# Altium integrated library Altium_WE-XTAL (rev19a).IntLib: 251 symbols (part 2 of 4)
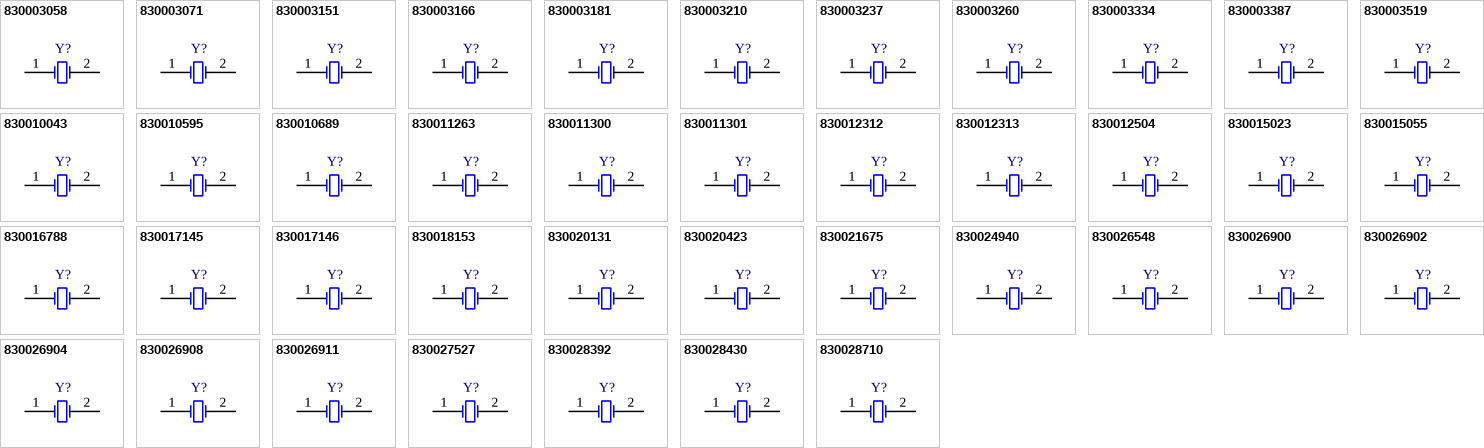
[diagram p18: symbols 830003058 to 830028710]

## 830026908
designator Y?, comment 14.7456MHz, +/-20ppm, 16pF  (value not drawn)
WE-XTAL Quartz Crystal, size HC49-4HSMX, 14.7456MHz, +/-20ppm, 16pF; Part Number: 830026908; Frequency Stability: 50ppm; ComponentLink1Description: Manufacturer; ComponentLink1URL: http://www.we-online.de; ComponentLink2Description: Datasheet; ComponentLink2URL: https://katalog.we-online.com/pbs/datasheet/830026908.pdf; Published Date: March 2019; Publisher: Wurth Elektronik; Size: HC49-4HSMX; Operating Temperature: -10 up to +60degC; Mounting Technology: SMT; Packaging: Tape and Reel; Load Capacitance: 16pF; Frequency Tolerance: +/-20ppm; Frequency: 14.7456MHz
footprint WE-XTAL_HC49/4HSMX
pins: 1 OSC1, 2 OSC2

## 830026911
designator Y?, comment 18.432MHz, +/-20ppm, 16pF  (value not drawn)
WE-XTAL Quartz Crystal, size HC49-4HSMX, 18.432MHz, +/-20ppm, 16pF; Part Number: 830026911; Frequency Stability: 50ppm; ComponentLink1Description: Manufacturer; ComponentLink1URL: http://www.we-online.de; ComponentLink2Description: Datasheet; ComponentLink2URL: https://katalog.we-online.com/pbs/datasheet/830026911.pdf; Published Date: March 2019; Publisher: Wurth Elektronik; Size: HC49-4HSMX; Operating Temperature: -10 up to +60degC; Mounting Technology: SMT; Packaging: Tape and Reel; Load Capacitance: 16pF; Frequency Tolerance: +/-20ppm; Frequency: 18.432MHz
footprint WE-XTAL_HC49/4HSMX
pins: 1 OSC1, 2 OSC2

## 830027527
designator Y?, comment 7.175MHz, +/-50ppm, 16pF  (value not drawn)
WE-XTAL Quartz Crystal, size HC49-4HSMX, 7.175MHz, +/-50ppm, 16pF; Part Number: 830027527; Frequency Stability: 100ppm; ComponentLink1Description: Manufacturer; ComponentLink1URL: http://www.we-online.de; ComponentLink2Description: Datasheet; ComponentLink2URL: https://katalog.we-online.com/pbs/datasheet/830027527.pdf; Published Date: March 2019; Publisher: Wurth Elektronik; Size: HC49-4HSMX; Operating Temperature: -55 up to +105degC; Mounting Technology: SMT; Packaging: Tape and Reel; Load Capacitance: 16pF; Frequency Tolerance: +/-50ppm; Frequency: 7.175MHz
footprint WE-XTAL_HC49/4HSMX
pins: 1 OSC1, 2 OSC2

## 830028392
designator Y?, comment 4.9152MHz, +/-30ppm, 18pF  (value not drawn)
WE-XTAL Quartz Crystal, size HC49-4HSMX, 4.9152MHz, +/-30ppm, 18pF; Part Number: 830028392; Frequency Stability: 50ppm; ComponentLink1Description: Manufacturer; ComponentLink1URL: http://www.we-online.de; ComponentLink2Description: Datasheet; ComponentLink2URL: https://katalog.we-online.com/pbs/datasheet/830028392.pdf; Published Date: March 2019; Publisher: Wurth Elektronik; Size: HC49-4HSMX; Operating Temperature: -20 up to +70degC; Mounting Technology: SMT; Packaging: Tape and Reel; Load Capacitance: 18pF; Frequency Tolerance: +/-30ppm; Frequency: 4.9152MHz
footprint WE-XTAL_HC49/4HSMX
pins: 1 OSC1, 2 OSC2

## 830028430
designator Y?, comment 3.2768MHz, +/-30ppm, 18pF  (value not drawn)
WE-XTAL Quartz Crystal, size HC49-4HSMX, 3.2768MHz, +/-30ppm, 18pF; Part Number: 830028430; Frequency Stability: 30ppm; ComponentLink1Description: Manufacturer; ComponentLink1URL: http://www.we-online.de; ComponentLink2Description: Datasheet; ComponentLink2URL: https://katalog.we-online.com/pbs/datasheet/830028430.pdf; Published Date: March 2019; Publisher: Wurth Elektronik; Size: HC49-4HSMX; Operating Temperature: -20 up to +70degC; Mounting Technology: SMT; Packaging: Tape and Reel; Load Capacitance: 18pF; Frequency Tolerance: +/-30ppm; Frequency: 3.2768MHz
footprint WE-XTAL_HC49/4HSMX
pins: 1 OSC1, 2 OSC2

## 830028710
designator Y?, comment 20MHz, +/-30ppm, 18pF  (value not drawn)
WE-XTAL Quartz Crystal, size HC49-4HSMX, 20MHz, +/-30ppm, 18pF; Part Number: 830028710; Frequency Stability: 50ppm; ComponentLink1Description: Manufacturer; ComponentLink1URL: http://www.we-online.de; ComponentLink2Description: Datasheet; ComponentLink2URL: https://katalog.we-online.com/pbs/datasheet/830028710.pdf; Published Date: March 2019; Publisher: Wurth Elektronik; Size: HC49-4HSMX; Operating Temperature: -40 up to +85degC; Mounting Technology: SMT; Packaging: Tape and Reel; Load Capacitance: 18pF; Frequency Tolerance: +/-30ppm; Frequency: 20MHz
footprint WE-XTAL_HC49/4HSMX
pins: 1 OSC1, 2 OSC2

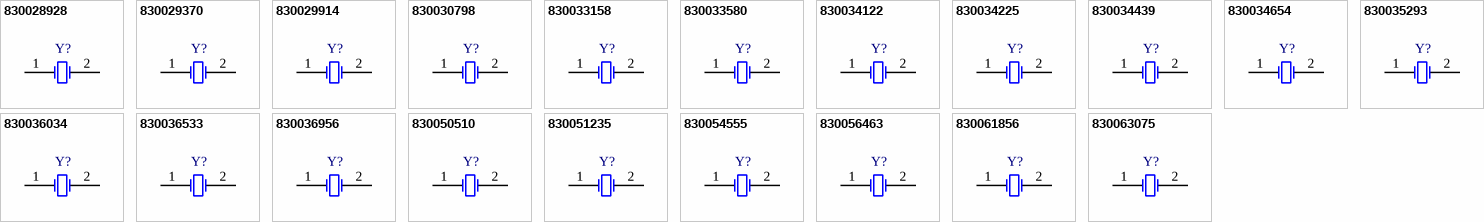
[diagram p6: symbols 830028928 to 830063075]

## 830028928
designator Y?, comment 11.0592MHz, +/-30ppm, 20pF  (value not drawn)
WE-XTAL Quartz Crystal, size HC49-4HSMX, 11.0592MHz, +/-30ppm, 20pF; Part Number: 830028928; Frequency Stability: 50ppm; ComponentLink1Description: Manufacturer; ComponentLink1URL: http://www.we-online.de; ComponentLink2Description: Datasheet; ComponentLink2URL: https://katalog.we-online.com/pbs/datasheet/830028928.pdf; Published Date: March 2019; Publisher: Wurth Elektronik; Size: HC49-4HSMX; Operating Temperature: -20 up to +70degC; Mounting Technology: SMT; Packaging: Tape and Reel; Load Capacitance: 20pF; Frequency Tolerance: +/-30ppm; Frequency: 11.0592MHz
footprint WE-XTAL_HC49/4HSMX
pins: 1 OSC1, 2 OSC2

## 830029370
designator Y?, comment 16MHz, +/-30ppm, 18pF  (value not drawn)
WE-XTAL Quartz Crystal, size HC49-4HSMX, 16MHz, +/-30ppm, 18pF; Part Number: 830029370; Frequency Stability: 50ppm; ComponentLink1Description: Manufacturer; ComponentLink1URL: http://www.we-online.de; ComponentLink2Description: Datasheet; ComponentLink2URL: https://katalog.we-online.com/pbs/datasheet/830029370.pdf; Published Date: March 2019; Publisher: Wurth Elektronik; Size: HC49-4HSMX; Operating Temperature: -20 up to +70degC; Mounting Technology: SMT; Packaging: Tape and Reel; Load Capacitance: 18pF; Frequency Tolerance: +/-30ppm; Frequency: 16MHz
footprint WE-XTAL_HC49/4HSMX
pins: 1 OSC1, 2 OSC2

## 830029914
designator Y?, comment 8MHz, +/-30ppm, 16pF  (value not drawn)
WE-XTAL Quartz Crystal, size HC49-4HSMX, 8MHz, +/-30ppm, 16pF; Part Number: 830029914; Frequency Stability: 50ppm; ComponentLink1Description: Manufacturer; ComponentLink1URL: http://www.we-online.de; ComponentLink2Description: Datasheet; ComponentLink2URL: https://katalog.we-online.com/pbs/datasheet/830029914.pdf; Published Date: March 2019; Publisher: Wurth Elektronik; Size: HC49-4HSMX; Operating Temperature: -40 up to +85degC; Mounting Technology: SMT; Packaging: Tape and Reel; Load Capacitance: 16pF; Frequency Tolerance: +/-30ppm; Frequency: 8MHz
footprint WE-XTAL_HC49/4HSMX
pins: 1 OSC1, 2 OSC2

## 830030798
designator Y?, comment 3.6864MHz, +/-30ppm, 16pF  (value not drawn)
WE-XTAL Quartz Crystal, size HC49-4HSMX, 3.6864MHz, +/-30ppm, 16pF; Part Number: 830030798; Frequency Stability: 50ppm; ComponentLink1Description: Manufacturer; ComponentLink1URL: http://www.we-online.de; ComponentLink2Description: Datasheet; ComponentLink2URL: https://katalog.we-online.com/pbs/datasheet/830030798.pdf; Published Date: March 2019; Publisher: Wurth Elektronik; Size: HC49-4HSMX; Operating Temperature: -40 up to +85degC; Mounting Technology: SMT; Packaging: Tape and Reel; Load Capacitance: 16pF; Frequency Tolerance: +/-30ppm; Frequency: 3.6864MHz
footprint WE-XTAL_HC49/4HSMX
pins: 1 OSC1, 2 OSC2

## 830033158
designator Y?, comment 3.6864MHz, +/-30ppm, 18pF  (value not drawn)
WE-XTAL Quartz Crystal, size HC49-4HSMX, 3.6864MHz, +/-30ppm, 18pF; Part Number: 830033158; Frequency Stability: 50ppm; ComponentLink1Description: Manufacturer; ComponentLink1URL: http://www.we-online.de; ComponentLink2Description: Datasheet; ComponentLink2URL: https://katalog.we-online.com/pbs/datasheet/830033158.pdf; Published Date: March 2019; Publisher: Wurth Elektronik; Size: HC49-4HSMX; Operating Temperature: -20 up to +70degC; Mounting Technology: SMT; Packaging: Tape and Reel; Load Capacitance: 18pF; Frequency Tolerance: +/-30ppm; Frequency: 3.6864MHz
footprint WE-XTAL_HC49/4HSMX
pins: 1 OSC1, 2 OSC2

## 830033580
designator Y?, comment 12MHz, +/-30ppm, 18pF  (value not drawn)
WE-XTAL Quartz Crystal, size HC49-4HSMX, 12MHz, +/-30ppm, 18pF; Part Number: 830033580; Frequency Stability: 50ppm; ComponentLink1Description: Manufacturer; ComponentLink1URL: http://www.we-online.de; ComponentLink2Description: Datasheet; ComponentLink2URL: https://katalog.we-online.com/pbs/datasheet/830033580.pdf; Published Date: March 2019; Publisher: Wurth Elektronik; Size: HC49-4HSMX; Operating Temperature: -20 up to +70degC; Mounting Technology: SMT; Packaging: Tape and Reel; Load Capacitance: 18pF; Frequency Tolerance: +/-30ppm; Frequency: 12MHz
footprint WE-XTAL_HC49/4HSMX
pins: 1 OSC1, 2 OSC2

## 830034122
designator Y?, comment 16MHz, +/-20ppm, 12pF  (value not drawn)
WE-XTAL Quartz Crystal, size HC49-4HSMX, 16MHz, +/-20ppm, 12pF; Part Number: 830034122; Frequency Stability: 20ppm; ComponentLink1Description: Manufacturer; ComponentLink1URL: http://www.we-online.de; ComponentLink2Description: Datasheet; ComponentLink2URL: https://katalog.we-online.com/pbs/datasheet/830034122.pdf; Published Date: March 2019; Publisher: Wurth Elektronik; Size: HC49-4HSMX; Operating Temperature: -20 up to +70degC; Mounting Technology: SMT; Packaging: Tape and Reel; Load Capacitance: 12pF; Frequency Tolerance: +/-20ppm; Frequency: 16MHz
footprint WE-XTAL_HC49/4HSMX
pins: 1 OSC1, 2 OSC2

## 830034225
designator Y?, comment 20MHz, +/-50ppm, 16pF  (value not drawn)
WE-XTAL Quartz Crystal, size HC49-4HSMX, 20MHz, +/-50ppm, 16pF; Part Number: 830034225; Frequency Stability: 50ppm; ComponentLink1Description: Manufacturer; ComponentLink1URL: http://www.we-online.de; ComponentLink2Description: Datasheet; ComponentLink2URL: https://katalog.we-online.com/pbs/datasheet/830034225.pdf; Published Date: March 2019; Publisher: Wurth Elektronik; Size: HC49-4HSMX; Operating Temperature: -30 up to +80degC; Mounting Technology: SMT; Packaging: Tape and Reel; Load Capacitance: 16pF; Frequency Tolerance: +/-50ppm; Frequency: 20MHz
footprint WE-XTAL_HC49/4HSMX
pins: 1 OSC1, 2 OSC2

## 830034439
designator Y?, comment 4.9152MHz, +/-30ppm, 16pF  (value not drawn)
WE-XTAL Quartz Crystal, size HC49-4HSMX, 4.9152MHz, +/-30ppm, 16pF; Part Number: 830034439; Frequency Stability: 50ppm; ComponentLink1Description: Manufacturer; ComponentLink1URL: http://www.we-online.de; ComponentLink2Description: Datasheet; ComponentLink2URL: https://katalog.we-online.com/pbs/datasheet/830034439.pdf; Published Date: March 2019; Publisher: Wurth Elektronik; Size: HC49-4HSMX; Operating Temperature: -20 up to +70degC; Mounting Technology: SMT; Packaging: Tape and Reel; Load Capacitance: 16pF; Frequency Tolerance: +/-30ppm; Frequency: 4.9152MHz
footprint WE-XTAL_HC49/4HSMX
pins: 1 OSC1, 2 OSC2

## 830034654
designator Y?, comment 4MHz, +/-20ppm, 18pF  (value not drawn)
WE-XTAL Quartz Crystal, size HC49-4HSMX, 4MHz, +/-20ppm, 18pF; Part Number: 830034654; Frequency Stability: 50ppm; ComponentLink1Description: Manufacturer; ComponentLink1URL: http://www.we-online.de; ComponentLink2Description: Datasheet; ComponentLink2URL: https://katalog.we-online.com/pbs/datasheet/830034654.pdf; Published Date: March 2019; Publisher: Wurth Elektronik; Size: HC49-4HSMX; Operating Temperature: -20 up to +70degC; Mounting Technology: SMT; Packaging: Tape and Reel; Load Capacitance: 18pF; Frequency Tolerance: +/-20ppm; Frequency: 4MHz
footprint WE-XTAL_HC49/4HSMX
pins: 1 OSC1, 2 OSC2

## 830035293
designator Y?, comment 12MHz, +/-30ppm, 16pF  (value not drawn)
WE-XTAL Quartz Crystal, size HC49-4HSMX, 12MHz, +/-30ppm, 16pF; Part Number: 830035293; Frequency Stability: 50ppm; ComponentLink1Description: Manufacturer; ComponentLink1URL: http://www.we-online.de; ComponentLink2Description: Datasheet; ComponentLink2URL: https://katalog.we-online.com/pbs/datasheet/830035293.pdf; Published Date: March 2019; Publisher: Wurth Elektronik; Size: HC49-4HSMX; Operating Temperature: -40 up to +85degC; Mounting Technology: SMT; Packaging: Tape and Reel; Load Capacitance: 16pF; Frequency Tolerance: +/-30ppm; Frequency: 12MHz
footprint WE-XTAL_HC49/4HSMX
pins: 1 OSC1, 2 OSC2

## 830036034
designator Y?, comment 16MHz, +/-30ppm, 16pF  (value not drawn)
WE-XTAL Quartz Crystal, size HC49-4HSMX, 16MHz, +/-30ppm, 16pF; Part Number: 830036034; Frequency Stability: 50ppm; ComponentLink1Description: Manufacturer; ComponentLink1URL: http://www.we-online.de; ComponentLink2Description: Datasheet; ComponentLink2URL: https://katalog.we-online.com/pbs/datasheet/830036034.pdf; Published Date: March 2019; Publisher: Wurth Elektronik; Size: HC49-4HSMX; Operating Temperature: -40 up to +85degC; Mounting Technology: SMT; Packaging: Tape and Reel; Load Capacitance: 16pF; Frequency Tolerance: +/-30ppm; Frequency: 16MHz
footprint WE-XTAL_HC49/4HSMX
pins: 1 OSC1, 2 OSC2

## 830036533
designator Y?, comment 24MHz, +/-30ppm, 18pF  (value not drawn)
WE-XTAL Quartz Crystal, size HC49-4HSMX, 24MHz, +/-30ppm, 18pF; Part Number: 830036533; Frequency Stability: 50ppm; ComponentLink1Description: Manufacturer; ComponentLink1URL: http://www.we-online.de; ComponentLink2Description: Datasheet; ComponentLink2URL: https://katalog.we-online.com/pbs/datasheet/830036533.pdf; Published Date: March 2019; Publisher: Wurth Elektronik; Size: HC49-4HSMX; Operating Temperature: -40 up to +85degC; Mounting Technology: SMT; Packaging: Tape and Reel; Load Capacitance: 18pF; Frequency Tolerance: +/-30ppm; Frequency: 24MHz
footprint WE-XTAL_HC49/4HSMX
pins: 1 OSC1, 2 OSC2

## 830036956
designator Y?, comment 14.7456MHz, +/-30ppm, 16pF  (value not drawn)
WE-XTAL Quartz Crystal, size HC49-4HSMX, 14.7456MHz, +/-30ppm, 16pF; Part Number: 830036956; Frequency Stability: 50ppm; ComponentLink1Description: Manufacturer; ComponentLink1URL: http://www.we-online.de; ComponentLink2Description: Datasheet; ComponentLink2URL: https://katalog.we-online.com/pbs/datasheet/830036956.pdf; Published Date: March 2019; Publisher: Wurth Elektronik; Size: HC49-4HSMX; Operating Temperature: -20 up to +70degC; Mounting Technology: SMT; Packaging: Tape and Reel; Load Capacitance: 16pF; Frequency Tolerance: +/-30ppm; Frequency: 14.7456MHz
footprint WE-XTAL_HC49/4HSMX
pins: 1 OSC1, 2 OSC2

## 830050510
designator Y?, comment 8MHz, +/-30ppm, 18pF  (value not drawn)
WE-XTAL Quartz Crystal, size HC49-4HSMX, 8MHz, +/-30ppm, 18pF; Part Number: 830050510; Frequency Stability: 50ppm; ComponentLink1Description: Manufacturer; ComponentLink1URL: http://www.we-online.de; ComponentLink2Description: Datasheet; ComponentLink2URL: https://katalog.we-online.com/pbs/datasheet/830050510.pdf; Published Date: March 2019; Publisher: Wurth Elektronik; Size: HC49-4HSMX; Operating Temperature: -40 up to +85degC; Mounting Technology: SMT; Packaging: Tape and Reel; Load Capacitance: 18pF; Frequency Tolerance: +/-30ppm; Frequency: 8MHz
footprint WE-XTAL_HC49/4HSMX
pins: 1 OSC1, 2 OSC2

## 830051235
designator Y?, comment 16MHz, +/-30ppm, 18pF  (value not drawn)
WE-XTAL Quartz Crystal, size HC49-4HSMX, 16MHz, +/-30ppm, 18pF; Part Number: 830051235; Frequency Stability: 50ppm; ComponentLink1Description: Manufacturer; ComponentLink1URL: http://www.we-online.de; ComponentLink2Description: Datasheet; ComponentLink2URL: https://katalog.we-online.com/pbs/datasheet/830051235.pdf; Published Date: March 2019; Publisher: Wurth Elektronik; Size: HC49-4HSMX; Operating Temperature: -40 up to +85degC; Mounting Technology: SMT; Packaging: Tape and Reel; Load Capacitance: 18pF; Frequency Tolerance: +/-30ppm; Frequency: 16MHz
footprint WE-XTAL_HC49/4HSMX
pins: 1 OSC1, 2 OSC2

## 830054555
designator Y?, comment 25MHz, +/-20ppm, 20pF  (value not drawn)
WE-XTAL Quartz Crystal, size HC49-4HSMX, 25MHz, +/-20ppm, 20pF; Part Number: 830054555; Frequency Stability: 20ppm; ComponentLink1Description: Manufacturer; ComponentLink1URL: http://www.we-online.de; ComponentLink2Description: Datasheet; ComponentLink2URL: https://katalog.we-online.com/pbs/datasheet/830054555.pdf; Published Date: March 2019; Publisher: Wurth Elektronik; Size: HC49-4HSMX; Operating Temperature: -40 up to +85degC; Mounting Technology: SMT; Packaging: Tape and Reel; Load Capacitance: 20pF; Frequency Tolerance: +/-20ppm; Frequency: 25MHz
footprint WE-XTAL_HC49/4HSMX
pins: 1 OSC1, 2 OSC2

## 830056463
designator Y?, comment 25MHz, +/-30ppm, 18pF  (value not drawn)
WE-XTAL Quartz Crystal, size HC49-4HSMX, 25MHz, +/-30ppm, 18pF; Part Number: 830056463; Frequency Stability: 50ppm; ComponentLink1Description: Manufacturer; ComponentLink1URL: http://www.we-online.de; ComponentLink2Description: Datasheet; ComponentLink2URL: https://katalog.we-online.com/pbs/datasheet/830056463.pdf; Published Date: March 2019; Publisher: Wurth Elektronik; Size: HC49-4HSMX; Operating Temperature: -40 up to +85degC; Mounting Technology: SMT; Packaging: Tape and Reel; Load Capacitance: 18pF; Frequency Tolerance: +/-30ppm; Frequency: 25MHz
footprint WE-XTAL_HC49/4HSMX
pins: 1 OSC1, 2 OSC2

## 830061856
designator Y?, comment 20MHz, +/-10ppm, 18pF  (value not drawn)
WE-XTAL Quartz Crystal, size HC49-4HSMX, 20MHz, +/-10ppm, 18pF; Part Number: 830061856; Frequency Stability: 10ppm; ComponentLink1Description: Manufacturer; ComponentLink1URL: http://www.we-online.de; ComponentLink2Description: Datasheet; ComponentLink2URL: https://katalog.we-online.com/pbs/datasheet/830061856.pdf; Published Date: March 2019; Publisher: Wurth Elektronik; Size: HC49-4HSMX; Operating Temperature: -20 up to +70degC; Mounting Technology: SMT; Packaging: Tape and Reel; Load Capacitance: 18pF; Frequency Tolerance: +/-10ppm; Frequency: 20MHz
footprint WE-XTAL_HC49/4HSMX
pins: 1 OSC1, 2 OSC2

## 830063075
designator Y?, comment 17.2032MHz, +/-30ppm, 22pF  (value not drawn)
WE-XTAL Quartz Crystal, size HC49-4HSMX, 17.2032MHz, +/-30ppm, 22pF; Part Number: 830063075; Frequency Stability: 50ppm; ComponentLink1Description: Manufacturer; ComponentLink1URL: http://www.we-online.de; ComponentLink2Description: Datasheet; ComponentLink2URL: https://katalog.we-online.com/pbs/datasheet/830063075.pdf; Published Date: March 2019; Publisher: Wurth Elektronik; Size: HC49-4HSMX; Operating Temperature: -40 up to +85degC; Mounting Technology: SMT; Packaging: Tape and Reel; Load Capacitance: 22pF; Frequency Tolerance: +/-30ppm; Frequency: 17.2032MHz
footprint WE-XTAL_HC49/4HSMX
pins: 1 OSC1, 2 OSC2


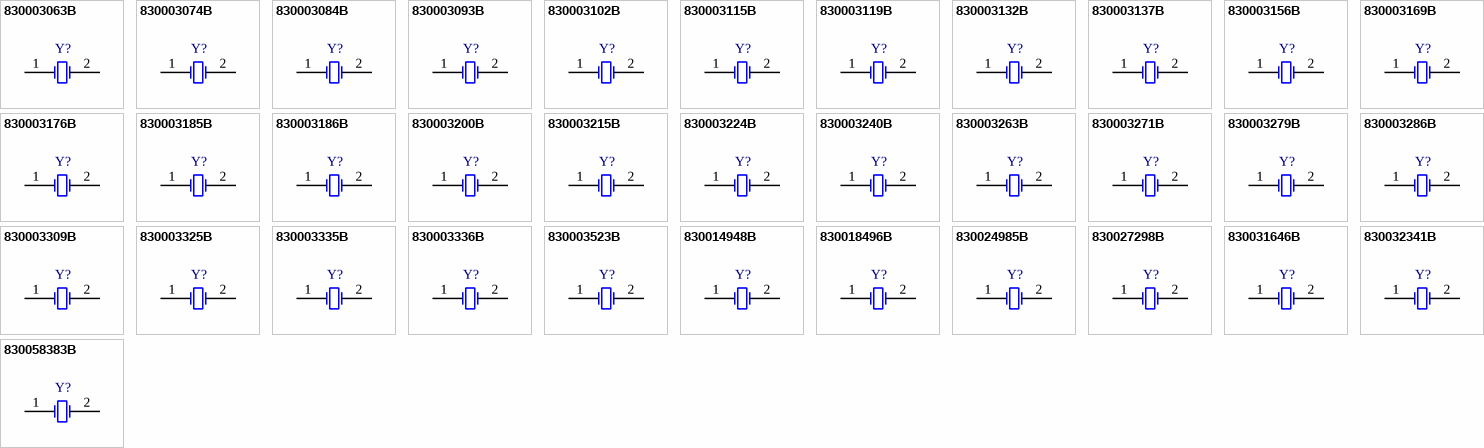
[diagram p7: symbols 830003063B to 830058383B]

## 830003063B
designator Y?, comment 3.579545MHz, +/-30ppm, 20pF  (value not drawn)
WE-XTAL Quartz Crystal, size HC49-4H, 3.579545MHz, +/-30ppm, 20pF; Part Number: 830003063B; Frequency Stability: 50ppm; ComponentLink1Description: Manufacturer; ComponentLink1URL: http://www.we-online.de; ComponentLink2Description: Datasheet; ComponentLink2URL: https://katalog.we-online.com/pbs/datasheet/830003063B.pdf; Published Date: March 2019; Publisher: Wurth Elektronik; Size: HC49-4H; Operating Temperature: -20 up to +70degC; Mounting Technology: THT; Packaging: Bulk; Load Capacitance: 20pF; Frequency Tolerance: +/-30ppm; Frequency: 3.579545MHz
footprint WE-XTAL_HC49/4H
pins: 1 OSC1, 2 OSC2

## 830003074B
designator Y?, comment 4MHz, +/-20ppm, 30pF  (value not drawn)
WE-XTAL Quartz Crystal, size HC49-4H, 4MHz, +/-20ppm, 30pF; Part Number: 830003074B; Frequency Stability: 50ppm; ComponentLink1Description: Manufacturer; ComponentLink1URL: http://www.we-online.de; ComponentLink2Description: Datasheet; ComponentLink2URL: https://katalog.we-online.com/pbs/datasheet/830003074B.pdf; Published Date: March 2019; Publisher: Wurth Elektronik; Size: HC49-4H; Operating Temperature: -10 up to +60degC; Mounting Technology: THT; Packaging: Bulk; Load Capacitance: 30pF; Frequency Tolerance: +/-20ppm; Frequency: 4MHz
footprint WE-XTAL_HC49/4H
pins: 1 OSC1, 2 OSC2

## 830003084B
designator Y?, comment 4.096MHz, +/-30ppm, 30pF  (value not drawn)
WE-XTAL Quartz Crystal, size HC49-4H, 4.096MHz, +/-30ppm, 30pF; Part Number: 830003084B; Frequency Stability: 50ppm; ComponentLink1Description: Manufacturer; ComponentLink1URL: http://www.we-online.de; ComponentLink2Description: Datasheet; ComponentLink2URL: https://katalog.we-online.com/pbs/datasheet/830003084B.pdf; Published Date: March 2019; Publisher: Wurth Elektronik; Size: HC49-4H; Operating Temperature: -10 up to +60degC; Mounting Technology: THT; Packaging: Bulk; Load Capacitance: 30pF; Frequency Tolerance: +/-30ppm; Frequency: 4.096MHz
footprint WE-XTAL_HC49/4H
pins: 1 OSC1, 2 OSC2

## 830003093B
designator Y?, comment 4.194304MHz, +/-30ppm, 12pF  (value not drawn)
WE-XTAL Quartz Crystal, size HC49-4H, 4.194304MHz, +/-30ppm, 12pF; Part Number: 830003093B; Frequency Stability: 50ppm; ComponentLink1Description: Manufacturer; ComponentLink1URL: http://www.we-online.de; ComponentLink2Description: Datasheet; ComponentLink2URL: https://katalog.we-online.com/pbs/datasheet/830003093B.pdf; Published Date: March 2019; Publisher: Wurth Elektronik; Size: HC49-4H; Operating Temperature: -10 up to +60degC; Mounting Technology: THT; Packaging: Bulk; Load Capacitance: 12pF; Frequency Tolerance: +/-30ppm; Frequency: 4.194304MHz
footprint WE-XTAL_HC49/4H
pins: 1 OSC1, 2 OSC2

## 830003102B
designator Y?, comment 4.433619MHz, +/-30ppm, 20pF  (value not drawn)
WE-XTAL Quartz Crystal, size HC49-4H, 4.433619MHz, +/-30ppm, 20pF; Part Number: 830003102B; Frequency Stability: 50ppm; ComponentLink1Description: Manufacturer; ComponentLink1URL: http://www.we-online.de; ComponentLink2Description: Datasheet; ComponentLink2URL: https://katalog.we-online.com/pbs/datasheet/830003102B.pdf; Published Date: March 2019; Publisher: Wurth Elektronik; Size: HC49-4H; Operating Temperature: -10 up to +60degC; Mounting Technology: THT; Packaging: Bulk; Load Capacitance: 20pF; Frequency Tolerance: +/-30ppm; Frequency: 4.433619MHz
footprint WE-XTAL_HC49/4H
pins: 1 OSC1, 2 OSC2

## 830003115B
designator Y?, comment 4.9152MHz, +/-30ppm, 30pF  (value not drawn)
WE-XTAL Quartz Crystal, size HC49-4H, 4.9152MHz, +/-30ppm, 30pF; Part Number: 830003115B; Frequency Stability: 50ppm; ComponentLink1Description: Manufacturer; ComponentLink1URL: http://www.we-online.de; ComponentLink2Description: Datasheet; ComponentLink2URL: https://katalog.we-online.com/pbs/datasheet/830003115B.pdf; Published Date: March 2019; Publisher: Wurth Elektronik; Size: HC49-4H; Operating Temperature: -20 up to +70degC; Mounting Technology: THT; Packaging: Bulk; Load Capacitance: 30pF; Frequency Tolerance: +/-30ppm; Frequency: 4.9152MHz
footprint WE-XTAL_HC49/4H
pins: 1 OSC1, 2 OSC2

## 830003119B
designator Y?, comment 5MHz, +/-30ppm, 30pF  (value not drawn)
WE-XTAL Quartz Crystal, size HC49-4H, 5MHz, +/-30ppm, 30pF; Part Number: 830003119B; Frequency Stability: 50ppm; ComponentLink1Description: Manufacturer; ComponentLink1URL: http://www.we-online.de; ComponentLink2Description: Datasheet; ComponentLink2URL: https://katalog.we-online.com/pbs/datasheet/830003119B.pdf; Published Date: March 2019; Publisher: Wurth Elektronik; Size: HC49-4H; Operating Temperature: -10 up to +60degC; Mounting Technology: THT; Packaging: Bulk; Load Capacitance: 30pF; Frequency Tolerance: +/-30ppm; Frequency: 5MHz
footprint WE-XTAL_HC49/4H
pins: 1 OSC1, 2 OSC2

## 830003132B
designator Y?, comment 6MHz, +/-30ppm, 30pF  (value not drawn)
WE-XTAL Quartz Crystal, size HC49-4H, 6MHz, +/-30ppm, 30pF; Part Number: 830003132B; Frequency Stability: 50ppm; ComponentLink1Description: Manufacturer; ComponentLink1URL: http://www.we-online.de; ComponentLink2Description: Datasheet; ComponentLink2URL: https://katalog.we-online.com/pbs/datasheet/830003132B.pdf; Published Date: March 2019; Publisher: Wurth Elektronik; Size: HC49-4H; Operating Temperature: -10 up to +60degC; Mounting Technology: THT; Packaging: Bulk; Load Capacitance: 30pF; Frequency Tolerance: +/-30ppm; Frequency: 6MHz
footprint WE-XTAL_HC49/4H
pins: 1 OSC1, 2 OSC2

## 830003137B
designator Y?, comment 6.144MHz, +/-30ppm, 30pF  (value not drawn)
WE-XTAL Quartz Crystal, size HC49-4H, 6.144MHz, +/-30ppm, 30pF; Part Number: 830003137B; Frequency Stability: 50ppm; ComponentLink1Description: Manufacturer; ComponentLink1URL: http://www.we-online.de; ComponentLink2Description: Datasheet; ComponentLink2URL: https://katalog.we-online.com/pbs/datasheet/830003137B.pdf; Published Date: March 2019; Publisher: Wurth Elektronik; Size: HC49-4H; Operating Temperature: -10 up to +60degC; Mounting Technology: THT; Packaging: Bulk; Load Capacitance: 30pF; Frequency Tolerance: +/-30ppm; Frequency: 6.144MHz
footprint WE-XTAL_HC49/4H
pins: 1 OSC1, 2 OSC2

## 830003156B
designator Y?, comment 8MHz, +/-30ppm, 30pF  (value not drawn)
WE-XTAL Quartz Crystal, size HC49-4H, 8MHz, +/-30ppm, 30pF; Part Number: 830003156B; Frequency Stability: 50ppm; ComponentLink1Description: Manufacturer; ComponentLink1URL: http://www.we-online.de; ComponentLink2Description: Datasheet; ComponentLink2URL: https://katalog.we-online.com/pbs/datasheet/830003156B.pdf; Published Date: March 2019; Publisher: Wurth Elektronik; Size: HC49-4H; Operating Temperature: -20 up to +70degC; Mounting Technology: THT; Packaging: Bulk; Load Capacitance: 30pF; Frequency Tolerance: +/-30ppm; Frequency: 8MHz
footprint WE-XTAL_HC49/4H
pins: 1 OSC1, 2 OSC2

## 830003169B
designator Y?, comment 10MHz, +/-30ppm, 30pF  (value not drawn)
WE-XTAL Quartz Crystal, size HC49-4H, 10MHz, +/-30ppm, 30pF; Part Number: 830003169B; Frequency Stability: 50ppm; ComponentLink1Description: Manufacturer; ComponentLink1URL: http://www.we-online.de; ComponentLink2Description: Datasheet; ComponentLink2URL: https://katalog.we-online.com/pbs/datasheet/830003169B.pdf; Published Date: March 2019; Publisher: Wurth Elektronik; Size: HC49-4H; Operating Temperature: -20 up to +70degC; Mounting Technology: THT; Packaging: Bulk; Load Capacitance: 30pF; Frequency Tolerance: +/-30ppm; Frequency: 10MHz
footprint WE-XTAL_HC49/4H
pins: 1 OSC1, 2 OSC2

## 830003176B
designator Y?, comment 18.432MHz, +/-30ppm, 30pF  (value not drawn)
WE-XTAL Quartz Crystal, size HC49-4H, 18.432MHz, +/-30ppm, 30pF; Part Number: 830003176B; Frequency Stability: 50ppm; ComponentLink1Description: Manufacturer; ComponentLink1URL: http://www.we-online.de; ComponentLink2Description: Datasheet; ComponentLink2URL: https://katalog.we-online.com/pbs/datasheet/830003176B.pdf; Published Date: March 2019; Publisher: Wurth Elektronik; Size: HC49-4H; Operating Temperature: -20 up to +70degC; Mounting Technology: THT; Packaging: Bulk; Load Capacitance: 30pF; Frequency Tolerance: +/-30ppm; Frequency: 18.432MHz
footprint WE-XTAL_HC49/4H
pins: 1 OSC1, 2 OSC2

## 830003185B
designator Y?, comment 20MHz, +/-30ppm, 12pF  (value not drawn)
WE-XTAL Quartz Crystal, size HC49-4H, 20MHz, +/-30ppm, 12pF; Part Number: 830003185B; Frequency Stability: 50ppm; ComponentLink1Description: Manufacturer; ComponentLink1URL: http://www.we-online.de; ComponentLink2Description: Datasheet; ComponentLink2URL: https://katalog.we-online.com/pbs/datasheet/830003185B.pdf; Published Date: March 2019; Publisher: Wurth Elektronik; Size: HC49-4H; Operating Temperature: -20 up to +70degC; Mounting Technology: THT; Packaging: Bulk; Load Capacitance: 12pF; Frequency Tolerance: +/-30ppm; Frequency: 20MHz
footprint WE-XTAL_HC49/4H
pins: 1 OSC1, 2 OSC2

## 830003186B
designator Y?, comment 20MHz, +/-30ppm, 20pF  (value not drawn)
WE-XTAL Quartz Crystal, size HC49-4H, 20MHz, +/-30ppm, 20pF; Part Number: 830003186B; Frequency Stability: 50ppm; ComponentLink1Description: Manufacturer; ComponentLink1URL: http://www.we-online.de; ComponentLink2Description: Datasheet; ComponentLink2URL: https://katalog.we-online.com/pbs/datasheet/830003186B.pdf; Published Date: March 2019; Publisher: Wurth Elektronik; Size: HC49-4H; Operating Temperature: -10 up to +60degC; Mounting Technology: THT; Packaging: Bulk; Load Capacitance: 20pF; Frequency Tolerance: +/-30ppm; Frequency: 20MHz
footprint WE-XTAL_HC49/4H
pins: 1 OSC1, 2 OSC2

## 830003200B
designator Y?, comment 14.31818MHz, +/-30ppm, 30pF  (value not drawn)
WE-XTAL Quartz Crystal, size HC49-4H, 14.31818MHz, +/-30ppm, 30pF; Part Number: 830003200B; Frequency Stability: 50ppm; ComponentLink1Description: Manufacturer; ComponentLink1URL: http://www.we-online.de; ComponentLink2Description: Datasheet; ComponentLink2URL: https://katalog.we-online.com/pbs/datasheet/830003200B.pdf; Published Date: March 2019; Publisher: Wurth Elektronik; Size: HC49-4H; Operating Temperature: -20 up to +70degC; Mounting Technology: THT; Packaging: Bulk; Load Capacitance: 30pF; Frequency Tolerance: +/-30ppm; Frequency: 14.31818MHz
footprint WE-XTAL_HC49/4H
pins: 1 OSC1, 2 OSC2

## 830003215B
designator Y?, comment 12MHz, +/-30ppm, 30pF  (value not drawn)
WE-XTAL Quartz Crystal, size HC49-4H, 12MHz, +/-30ppm, 30pF; Part Number: 830003215B; Frequency Stability: 50ppm; ComponentLink1Description: Manufacturer; ComponentLink1URL: http://www.we-online.de; ComponentLink2Description: Datasheet; ComponentLink2URL: https://katalog.we-online.com/pbs/datasheet/830003215B.pdf; Published Date: March 2019; Publisher: Wurth Elektronik; Size: HC49-4H; Operating Temperature: -20 up to +70degC; Mounting Technology: THT; Packaging: Bulk; Load Capacitance: 30pF; Frequency Tolerance: +/-30ppm; Frequency: 12MHz
footprint WE-XTAL_HC49/4H
pins: 1 OSC1, 2 OSC2

## 830003224B
designator Y?, comment 14.7456MHz, +/-30ppm, 30pF  (value not drawn)
WE-XTAL Quartz Crystal, size HC49-4H, 14.7456MHz, +/-30ppm, 30pF; Part Number: 830003224B; Frequency Stability: 50ppm; ComponentLink1Description: Manufacturer; ComponentLink1URL: http://www.we-online.de; ComponentLink2Description: Datasheet; ComponentLink2URL: https://katalog.we-online.com/pbs/datasheet/830003224B.pdf; Published Date: March 2019; Publisher: Wurth Elektronik; Size: HC49-4H; Operating Temperature: -10 up to +60degC; Mounting Technology: THT; Packaging: Bulk; Load Capacitance: 30pF; Frequency Tolerance: +/-30ppm; Frequency: 14.7456MHz
footprint WE-XTAL_HC49/4H
pins: 1 OSC1, 2 OSC2

## 830003240B
designator Y?, comment 16MHz, +/-30ppm, 30pF  (value not drawn)
WE-XTAL Quartz Crystal, size HC49-4H, 16MHz, +/-30ppm, 30pF; Part Number: 830003240B; Frequency Stability: 50ppm; ComponentLink1Description: Manufacturer; ComponentLink1URL: http://www.we-online.de; ComponentLink2Description: Datasheet; ComponentLink2URL: https://katalog.we-online.com/pbs/datasheet/830003240B.pdf; Published Date: March 2019; Publisher: Wurth Elektronik; Size: HC49-4H; Operating Temperature: -20 up to +70degC; Mounting Technology: THT; Packaging: Bulk; Load Capacitance: 30pF; Frequency Tolerance: +/-30ppm; Frequency: 16MHz
footprint WE-XTAL_HC49/4H
pins: 1 OSC1, 2 OSC2

## 830003263B
designator Y?, comment 3.6864MHz, +/-30ppm, 30pF  (value not drawn)
WE-XTAL Quartz Crystal, size HC49-4H, 3.6864MHz, +/-30ppm, 30pF; Part Number: 830003263B; Frequency Stability: 50ppm; ComponentLink1Description: Manufacturer; ComponentLink1URL: http://www.we-online.de; ComponentLink2Description: Datasheet; ComponentLink2URL: https://katalog.we-online.com/pbs/datasheet/830003263B.pdf; Published Date: March 2019; Publisher: Wurth Elektronik; Size: HC49-4H; Operating Temperature: -20 up to +70degC; Mounting Technology: THT; Packaging: Bulk; Load Capacitance: 30pF; Frequency Tolerance: +/-30ppm; Frequency: 3.6864MHz
footprint WE-XTAL_HC49/4H
pins: 1 OSC1, 2 OSC2

## 830003271B
designator Y?, comment 8.192MHz, +/-30ppm, 30pF  (value not drawn)
WE-XTAL Quartz Crystal, size HC49-4H, 8.192MHz, +/-30ppm, 30pF; Part Number: 830003271B; Frequency Stability: 50ppm; ComponentLink1Description: Manufacturer; ComponentLink1URL: http://www.we-online.de; ComponentLink2Description: Datasheet; ComponentLink2URL: https://katalog.we-online.com/pbs/datasheet/830003271B.pdf; Published Date: March 2019; Publisher: Wurth Elektronik; Size: HC49-4H; Operating Temperature: -10 up to +60degC; Mounting Technology: THT; Packaging: Bulk; Load Capacitance: 30pF; Frequency Tolerance: +/-30ppm; Frequency: 8.192MHz
footprint WE-XTAL_HC49/4H
pins: 1 OSC1, 2 OSC2

## 830003279B
designator Y?, comment 9.8304MHz, +/-30ppm, 30pF  (value not drawn)
WE-XTAL Quartz Crystal, size HC49-4H, 9.8304MHz, +/-30ppm, 30pF; Part Number: 830003279B; Frequency Stability: 50ppm; ComponentLink1Description: Manufacturer; ComponentLink1URL: http://www.we-online.de; ComponentLink2Description: Datasheet; ComponentLink2URL: https://katalog.we-online.com/pbs/datasheet/830003279B.pdf; Published Date: March 2019; Publisher: Wurth Elektronik; Size: HC49-4H; Operating Temperature: -10 up to +60degC; Mounting Technology: THT; Packaging: Bulk; Load Capacitance: 30pF; Frequency Tolerance: +/-30ppm; Frequency: 9.8304MHz
footprint WE-XTAL_HC49/4H
pins: 1 OSC1, 2 OSC2

## 830003286B
designator Y?, comment 12.288MHz, +/-30ppm, 30pF  (value not drawn)
WE-XTAL Quartz Crystal, size HC49-4H, 12.288MHz, +/-30ppm, 30pF; Part Number: 830003286B; Frequency Stability: 50ppm; ComponentLink1Description: Manufacturer; ComponentLink1URL: http://www.we-online.de; ComponentLink2Description: Datasheet; ComponentLink2URL: https://katalog.we-online.com/pbs/datasheet/830003286B.pdf; Published Date: March 2019; Publisher: Wurth Elektronik; Size: HC49-4H; Operating Temperature: -10 up to +60degC; Mounting Technology: THT; Packaging: Bulk; Load Capacitance: 30pF; Frequency Tolerance: +/-30ppm; Frequency: 12.288MHz
footprint WE-XTAL_HC49/4H
pins: 1 OSC1, 2 OSC2

## 830003309B
designator Y?, comment 19.6608MHz, +/-30ppm, 30pF  (value not drawn)
WE-XTAL Quartz Crystal, size HC49-4H, 19.6608MHz, +/-30ppm, 30pF; Part Number: 830003309B; Frequency Stability: 50ppm; ComponentLink1Description: Manufacturer; ComponentLink1URL: http://www.we-online.de; ComponentLink2Description: Datasheet; ComponentLink2URL: https://katalog.we-online.com/pbs/datasheet/830003309B.pdf; Published Date: March 2019; Publisher: Wurth Elektronik; Size: HC49-4H; Operating Temperature: -10 up to +60degC; Mounting Technology: THT; Packaging: Bulk; Load Capacitance: 30pF; Frequency Tolerance: +/-30ppm; Frequency: 19.6608MHz
footprint WE-XTAL_HC49/4H
pins: 1 OSC1, 2 OSC2

## 830003325B
designator Y?, comment 24MHz, +/-30ppm, 30pF  (value not drawn)
WE-XTAL Quartz Crystal, size HC49-4H, 24MHz, +/-30ppm, 30pF; Part Number: 830003325B; Frequency Stability: 50ppm; ComponentLink1Description: Manufacturer; ComponentLink1URL: http://www.we-online.de; ComponentLink2Description: Datasheet; ComponentLink2URL: https://katalog.we-online.com/pbs/datasheet/830003325B.pdf; Published Date: March 2019; Publisher: Wurth Elektronik; Size: HC49-4H; Operating Temperature: -10 up to +60degC; Mounting Technology: THT; Packaging: Bulk; Load Capacitance: 30pF; Frequency Tolerance: +/-30ppm; Frequency: 24MHz
footprint WE-XTAL_HC49/4H
pins: 1 OSC1, 2 OSC2

## 830003335B
designator Y?, comment 7.3728MHz, +/-30ppm, 30pF  (value not drawn)
WE-XTAL Quartz Crystal, size HC49-4H, 7.3728MHz, +/-30ppm, 30pF; Part Number: 830003335B; Frequency Stability: 50ppm; ComponentLink1Description: Manufacturer; ComponentLink1URL: http://www.we-online.de; ComponentLink2Description: Datasheet; ComponentLink2URL: https://katalog.we-online.com/pbs/datasheet/830003335B.pdf; Published Date: March 2019; Publisher: Wurth Elektronik; Size: HC49-4H; Operating Temperature: -10 up to +60degC; Mounting Technology: THT; Packaging: Bulk; Load Capacitance: 30pF; Frequency Tolerance: +/-30ppm; Frequency: 7.3728MHz
footprint WE-XTAL_HC49/4H
pins: 1 OSC1, 2 OSC2

## 830003336B
designator Y?, comment 7.3728MHz, +/-15ppm, 18pF  (value not drawn)
WE-XTAL Quartz Crystal, size HC49-4H, 7.3728MHz, +/-15ppm, 18pF; Part Number: 830003336B; Frequency Stability: 30ppm; ComponentLink1Description: Manufacturer; ComponentLink1URL: http://www.we-online.de; ComponentLink2Description: Datasheet; ComponentLink2URL: https://katalog.we-online.com/pbs/datasheet/830003336B.pdf; Published Date: March 2019; Publisher: Wurth Elektronik; Size: HC49-4H; Operating Temperature: -10 up to +60degC; Mounting Technology: THT; Packaging: Bulk; Load Capacitance: 18pF; Frequency Tolerance: +/-15ppm; Frequency: 7.3728MHz
footprint WE-XTAL_HC49/4H
pins: 1 OSC1, 2 OSC2

## 830003523B
designator Y?, comment 11.0592MHz, +/-30ppm, 30pF  (value not drawn)
WE-XTAL Quartz Crystal, size HC49-4H, 11.0592MHz, +/-30ppm, 30pF; Part Number: 830003523B; Frequency Stability: 50ppm; ComponentLink1Description: Manufacturer; ComponentLink1URL: http://www.we-online.de; ComponentLink2Description: Datasheet; ComponentLink2URL: https://katalog.we-online.com/pbs/datasheet/830003523B.pdf; Published Date: March 2019; Publisher: Wurth Elektronik; Size: HC49-4H; Operating Temperature: -20 up to +70degC; Mounting Technology: THT; Packaging: Bulk; Load Capacitance: 30pF; Frequency Tolerance: +/-30ppm; Frequency: 11.0592MHz
footprint WE-XTAL_HC49/4H
pins: 1 OSC1, 2 OSC2

## 830014948B
designator Y?, comment 27.12MHz, +/-30ppm  (value not drawn)
WE-XTAL Quartz Crystal, size HC49-4H, 27.12MHz, +/-30ppm; Part Number: 830014948B; Frequency Stability: 50ppm; ComponentLink1Description: Manufacturer; ComponentLink1URL: http://www.we-online.de; ComponentLink2Description: Datasheet; ComponentLink2URL: https://katalog.we-online.com/pbs/datasheet/830014948B.pdf; Published Date: March 2019; Publisher: Wurth Elektronik; Size: HC49-4H; Operating Temperature: -10 up to +60degC; Mounting Technology: THT; Packaging: Bulk; Load Capacitance: -; Frequency Tolerance: +/-30ppm; Frequency: 27.12MHz
footprint WE-XTAL_HC49/4H
pins: 1 OSC1, 2 OSC2

## 830018496B
designator Y?, comment 11.0592MHz, +/-30ppm, 18pF  (value not drawn)
WE-XTAL Quartz Crystal, size HC49-4H, 11.0592MHz, +/-30ppm, 18pF; Part Number: 830018496B; Frequency Stability: 50ppm; ComponentLink1Description: Manufacturer; ComponentLink1URL: http://www.we-online.de; ComponentLink2Description: Datasheet; ComponentLink2URL: https://katalog.we-online.com/pbs/datasheet/830018496B.pdf; Published Date: March 2019; Publisher: Wurth Elektronik; Size: HC49-4H; Operating Temperature: -20 up to +70degC; Mounting Technology: THT; Packaging: Bulk; Load Capacitance: 18pF; Frequency Tolerance: +/-30ppm; Frequency: 11.0592MHz
footprint WE-XTAL_HC49/4H
pins: 1 OSC1, 2 OSC2

## 830024985B
designator Y?, comment 3.2768MHz, +/-30ppm, 12pF  (value not drawn)
WE-XTAL Quartz Crystal, size HC49-4H, 3.2768MHz, +/-30ppm, 12pF; Part Number: 830024985B; Frequency Stability: 50ppm; ComponentLink1Description: Manufacturer; ComponentLink1URL: http://www.we-online.de; ComponentLink2Description: Datasheet; ComponentLink2URL: https://katalog.we-online.com/pbs/datasheet/830024985B.pdf; Published Date: March 2019; Publisher: Wurth Elektronik; Size: HC49-4H; Operating Temperature: -10 up to +60degC; Mounting Technology: THT; Packaging: Bulk; Load Capacitance: 12pF; Frequency Tolerance: +/-30ppm; Frequency: 3.2768MHz
footprint WE-XTAL_HC49/4H
pins: 1 OSC1, 2 OSC2

## 830027298B
designator Y?, comment 4MHz, +/-30ppm, 18pF  (value not drawn)
WE-XTAL Quartz Crystal, size HC49-4H, 4MHz, +/-30ppm, 18pF; Part Number: 830027298B; Frequency Stability: 50ppm; ComponentLink1Description: Manufacturer; ComponentLink1URL: http://www.we-online.de; ComponentLink2Description: Datasheet; ComponentLink2URL: https://katalog.we-online.com/pbs/datasheet/830027298B.pdf; Published Date: March 2019; Publisher: Wurth Elektronik; Size: HC49-4H; Operating Temperature: -20 up to +70degC; Mounting Technology: THT; Packaging: Bulk; Load Capacitance: 18pF; Frequency Tolerance: +/-30ppm; Frequency: 4MHz
footprint WE-XTAL_HC49/4H
pins: 1 OSC1, 2 OSC2

## 830031646B
designator Y?, comment 13MHz, +/-30ppm, 18pF  (value not drawn)
WE-XTAL Quartz Crystal, size HC49-4H, 13MHz, +/-30ppm, 18pF; Part Number: 830031646B; Frequency Stability: 50ppm; ComponentLink1Description: Manufacturer; ComponentLink1URL: http://www.we-online.de; ComponentLink2Description: Datasheet; ComponentLink2URL: https://katalog.we-online.com/pbs/datasheet/830031646B.pdf; Published Date: March 2019; Publisher: Wurth Elektronik; Size: HC49-4H; Operating Temperature: -20 up to +70degC; Mounting Technology: THT; Packaging: Bulk; Load Capacitance: 18pF; Frequency Tolerance: +/-30ppm; Frequency: 13MHz
footprint WE-XTAL_HC49/4H
pins: 1 OSC1, 2 OSC2

## 830032341B
designator Y?, comment 10MHz, +/-30ppm, 18pF  (value not drawn)
WE-XTAL Quartz Crystal, size HC49-4H, 10MHz, +/-30ppm, 18pF; Part Number: 830032341B; Frequency Stability: 50ppm; ComponentLink1Description: Manufacturer; ComponentLink1URL: http://www.we-online.de; ComponentLink2Description: Datasheet; ComponentLink2URL: https://katalog.we-online.com/pbs/datasheet/830032341B.pdf; Published Date: March 2019; Publisher: Wurth Elektronik; Size: HC49-4H; Operating Temperature: -20 up to +70degC; Mounting Technology: THT; Packaging: Bulk; Load Capacitance: 18pF; Frequency Tolerance: +/-30ppm; Frequency: 10MHz
footprint WE-XTAL_HC49/4H
pins: 1 OSC1, 2 OSC2

## 830058383B
designator Y?, comment 16MHz, +/-30ppm, 20pF  (value not drawn)
WE-XTAL Quartz Crystal, size HC49-4H, 16MHz, +/-30ppm, 20pF; Part Number: 830058383B; Frequency Stability: 50ppm; ComponentLink1Description: Manufacturer; ComponentLink1URL: http://www.we-online.de; ComponentLink2Description: Datasheet; ComponentLink2URL: https://katalog.we-online.com/pbs/datasheet/830058383B.pdf; Published Date: March 2019; Publisher: Wurth Elektronik; Size: HC49-4H; Operating Temperature: -40 up to +85degC; Mounting Technology: THT; Packaging: Bulk; Load Capacitance: 20pF; Frequency Tolerance: +/-30ppm; Frequency: 16MHz
footprint WE-XTAL_HC49/4H
pins: 1 OSC1, 2 OSC2


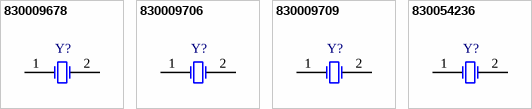
[diagram p8: symbols 830009678 to 830054236]

## 830009678
designator Y?, comment 32.768kHz, +/-20ppm, 12.5pF  (value not drawn)
WE-XTAL Quartz Crystal, size CFPX-217, 32.768kHz, +/-20ppm, 12.5pF; Part Number: 830009678; ComponentLink1Description: Manufacturer; ComponentLink1URL: http://www.we-online.de; ComponentLink2Description: Datasheet; ComponentLink2URL: https://katalog.we-online.com/pbs/datasheet/830009678.pdf; Published Date: March 2019; Publisher: Wurth Elektronik; Size: CFPX-217; Frequency Stability: -; Operating Temperature: -40 up to +85degC; Mounting Technology: SMT; Packaging: Tape and Reel; Load Capacitance: 12.5pF; Frequency Tolerance: +/-20ppm; Frequency: 32.768kHz
footprint WE-XTAL_CFPX-217
pins: 1 OSC1, 2 OSC2

## 830009706
designator Y?, comment 32.768kHz, +/-20ppm, 9pF  (value not drawn)
WE-XTAL Quartz Crystal, size CFPX-217, 32.768kHz, +/-20ppm, 9pF; Part Number: 830009706; ComponentLink1Description: Manufacturer; ComponentLink1URL: http://www.we-online.de; ComponentLink2Description: Datasheet; ComponentLink2URL: https://katalog.we-online.com/pbs/datasheet/830009706.pdf; Published Date: March 2019; Publisher: Wurth Elektronik; Size: CFPX-217; Frequency Stability: -; Operating Temperature: -40 up to +85degC; Mounting Technology: SMT; Packaging: Tape and Reel; Load Capacitance: 9pF; Frequency Tolerance: +/-20ppm; Frequency: 32.768kHz
footprint WE-XTAL_CFPX-217
pins: 1 OSC1, 2 OSC2

## 830009709
designator Y?, comment 32.768kHz, +/-20ppm, 7pF  (value not drawn)
WE-XTAL Quartz Crystal, size CFPX-217, 32.768kHz, +/-20ppm, 7pF; Part Number: 830009709; ComponentLink1Description: Manufacturer; ComponentLink1URL: http://www.we-online.de; ComponentLink2Description: Datasheet; ComponentLink2URL: https://katalog.we-online.com/pbs/datasheet/830009709.pdf; Published Date: March 2019; Publisher: Wurth Elektronik; Size: CFPX-217; Frequency Stability: -; Operating Temperature: -40 up to +85degC; Mounting Technology: SMT; Packaging: Tape and Reel; Load Capacitance: 7pF; Frequency Tolerance: +/-20ppm; Frequency: 32.768kHz
footprint WE-XTAL_CFPX-217
pins: 1 OSC1, 2 OSC2

## 830054236
designator Y?, comment 32.768kHz, +/-20ppm, 6pF  (value not drawn)
WE-XTAL Quartz Crystal, size CFPX-217, 32.768kHz, +/-20ppm, 6pF; Part Number: 830054236; ComponentLink1Description: Manufacturer; ComponentLink1URL: http://www.we-online.de; ComponentLink2Description: Datasheet; ComponentLink2URL: https://katalog.we-online.com/pbs/datasheet/830054236.pdf; Published Date: March 2019; Publisher: Wurth Elektronik; Size: CFPX-217; Frequency Stability: -; Operating Temperature: -40 up to +85degC; Mounting Technology: SMT; Packaging: Tape and Reel; Load Capacitance: 6pF; Frequency Tolerance: +/-20ppm; Frequency: 32.768kHz
footprint WE-XTAL_CFPX-217
pins: 1 OSC1, 2 OSC2


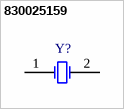
[diagram p9: symbol 830025159]

## 830025159
designator Y?, comment 32.768kHz, +/-20ppm, 12.5pF  (value not drawn)
WE-XTAL Quartz Crystal, size CFPX-56, 32.768kHz, +/-20ppm, 12.5pF; Part Number: 830025159; ComponentLink1Description: Manufacturer; ComponentLink1URL: http://www.we-online.de; ComponentLink2Description: Datasheet; ComponentLink2URL: https://katalog.we-online.com/pbs/datasheet/830025159.pdf; Published Date: March 2019; Publisher: Wurth Elektronik; Size: CFPX-56; Frequency Stability: -; Operating Temperature: -40 up to +85degC; Mounting Technology: SMT; Packaging: Tape and Reel; Load Capacitance: 12.5pF; Frequency Tolerance: +/-20ppm; Frequency: 32.768kHz
footprint WE-XTAL_CFPX-56
pins: 1 OSC1, 2 OSC2


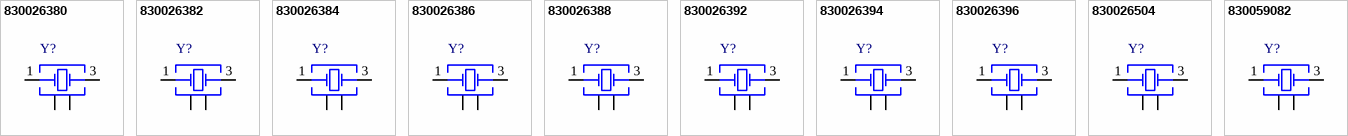
[diagram p10: symbols 830026380 to 830059082]

## 830026380
designator Y?, comment 8MHz, +/-30ppm, 16pF  (value not drawn)
WE-XTAL Quartz Crystal, size 12SMX, 8MHz, +/-30ppm, 16pF; Part Number: 830026380; Frequency Stability: 50ppm; ComponentLink1Description: Manufacturer; ComponentLink1URL: http://www.we-online.de; ComponentLink2Description: Datasheet; ComponentLink2URL: https://katalog.we-online.com/pbs/datasheet/830026380.pdf; Published Date: March 2019; Publisher: Wurth Elektronik; Size: 12SMX; Operating Temperature: -20 up to +70degC; Mounting Technology: SMT; Packaging: Tape and Reel; Load Capacitance: 16pF; Frequency Tolerance: +/-30ppm; Frequency: 8MHz
footprint WE-XTAL_12SMX
pins: 1 OSC1, 2 GND, 3 OSC2, 4 GND

## 830026382
designator Y?, comment 11.0592MHz, +/-30ppm, 16pF  (value not drawn)
WE-XTAL Quartz Crystal, size 12SMX, 11.0592MHz, +/-30ppm, 16pF; Part Number: 830026382; Frequency Stability: 50ppm; ComponentLink1Description: Manufacturer; ComponentLink1URL: http://www.we-online.de; ComponentLink2Description: Datasheet; ComponentLink2URL: https://katalog.we-online.com/pbs/datasheet/830026382.pdf; Published Date: March 2019; Publisher: Wurth Elektronik; Size: 12SMX; Operating Temperature: -20 up to +70degC; Mounting Technology: SMT; Packaging: Tape and Reel; Load Capacitance: 16pF; Frequency Tolerance: +/-30ppm; Frequency: 11.0592MHz
footprint WE-XTAL_12SMX
pins: 1 OSC1, 2 GND, 3 OSC2, 4 GND

## 830026384
designator Y?, comment 12MHz, +/-30ppm, 16pF  (value not drawn)
WE-XTAL Quartz Crystal, size 12SMX, 12MHz, +/-30ppm, 16pF; Part Number: 830026384; Frequency Stability: 50ppm; ComponentLink1Description: Manufacturer; ComponentLink1URL: http://www.we-online.de; ComponentLink2Description: Datasheet; ComponentLink2URL: https://katalog.we-online.com/pbs/datasheet/830026384.pdf; Published Date: March 2019; Publisher: Wurth Elektronik; Size: 12SMX; Operating Temperature: -20 up to +70degC; Mounting Technology: SMT; Packaging: Tape and Reel; Load Capacitance: 16pF; Frequency Tolerance: +/-30ppm; Frequency: 12MHz
footprint WE-XTAL_12SMX
pins: 1 OSC1, 2 GND, 3 OSC2, 4 GND

## 830026386
designator Y?, comment 14.31818MHz, +/-30ppm, 16pF  (value not drawn)
WE-XTAL Quartz Crystal, size 12SMX, 14.31818MHz, +/-30ppm, 16pF; Part Number: 830026386; Frequency Stability: 50ppm; ComponentLink1Description: Manufacturer; ComponentLink1URL: http://www.we-online.de; ComponentLink2Description: Datasheet; ComponentLink2URL: https://katalog.we-online.com/pbs/datasheet/830026386.pdf; Published Date: March 2019; Publisher: Wurth Elektronik; Size: 12SMX; Operating Temperature: -20 up to +70degC; Mounting Technology: SMT; Packaging: Tape and Reel; Load Capacitance: 16pF; Frequency Tolerance: +/-30ppm; Frequency: 14.31818MHz
footprint WE-XTAL_12SMX
pins: 1 OSC1, 2 GND, 3 OSC2, 4 GND

## 830026388
designator Y?, comment 14.7456MHz, +/-30ppm, 16pF  (value not drawn)
WE-XTAL Quartz Crystal, size 12SMX, 14.7456MHz, +/-30ppm, 16pF; Part Number: 830026388; Frequency Stability: 50ppm; ComponentLink1Description: Manufacturer; ComponentLink1URL: http://www.we-online.de; ComponentLink2Description: Datasheet; ComponentLink2URL: https://katalog.we-online.com/pbs/datasheet/830026388.pdf; Published Date: March 2019; Publisher: Wurth Elektronik; Size: 12SMX; Operating Temperature: -20 up to +70degC; Mounting Technology: SMT; Packaging: Tape and Reel; Load Capacitance: 16pF; Frequency Tolerance: +/-30ppm; Frequency: 14.7456MHz
footprint WE-XTAL_12SMX
pins: 1 OSC1, 2 GND, 3 OSC2, 4 GND

## 830026392
designator Y?, comment 16MHz, +/-30ppm, 16pF  (value not drawn)
WE-XTAL Quartz Crystal, size 12SMX, 16MHz, +/-30ppm, 16pF; Part Number: 830026392; Frequency Stability: 50ppm; ComponentLink1Description: Manufacturer; ComponentLink1URL: http://www.we-online.de; ComponentLink2Description: Datasheet; ComponentLink2URL: https://katalog.we-online.com/pbs/datasheet/830026392.pdf; Published Date: March 2019; Publisher: Wurth Elektronik; Size: 12SMX; Operating Temperature: -20 up to +70degC; Mounting Technology: SMT; Packaging: Tape and Reel; Load Capacitance: 16pF; Frequency Tolerance: +/-30ppm; Frequency: 16MHz
footprint WE-XTAL_12SMX
pins: 1 OSC1, 2 GND, 3 OSC2, 4 GND

## 830026394
designator Y?, comment 20MHz, +/-30ppm, 16pF  (value not drawn)
WE-XTAL Quartz Crystal, size 12SMX, 20MHz, +/-30ppm, 16pF; Part Number: 830026394; Frequency Stability: 50ppm; ComponentLink1Description: Manufacturer; ComponentLink1URL: http://www.we-online.de; ComponentLink2Description: Datasheet; ComponentLink2URL: https://katalog.we-online.com/pbs/datasheet/830026394.pdf; Published Date: March 2019; Publisher: Wurth Elektronik; Size: 12SMX; Operating Temperature: -20 up to +70degC; Mounting Technology: SMT; Packaging: Tape and Reel; Load Capacitance: 16pF; Frequency Tolerance: +/-30ppm; Frequency: 20MHz
footprint WE-XTAL_12SMX
pins: 1 OSC1, 2 GND, 3 OSC2, 4 GND